# Altium footprint library 0805 Package.PcbLib: 22 footprints (part 1 of 2)
Each footprint in its own frame and in the unit in brackets; x right, y up, seen from the top. Pads: shape width x height; smd on the part's side, far side on the other; paste and mask are expansions set on the pad; w line width, h text height; cw(c..) or ccw(c..) is an arc to the next point about the centre after c.
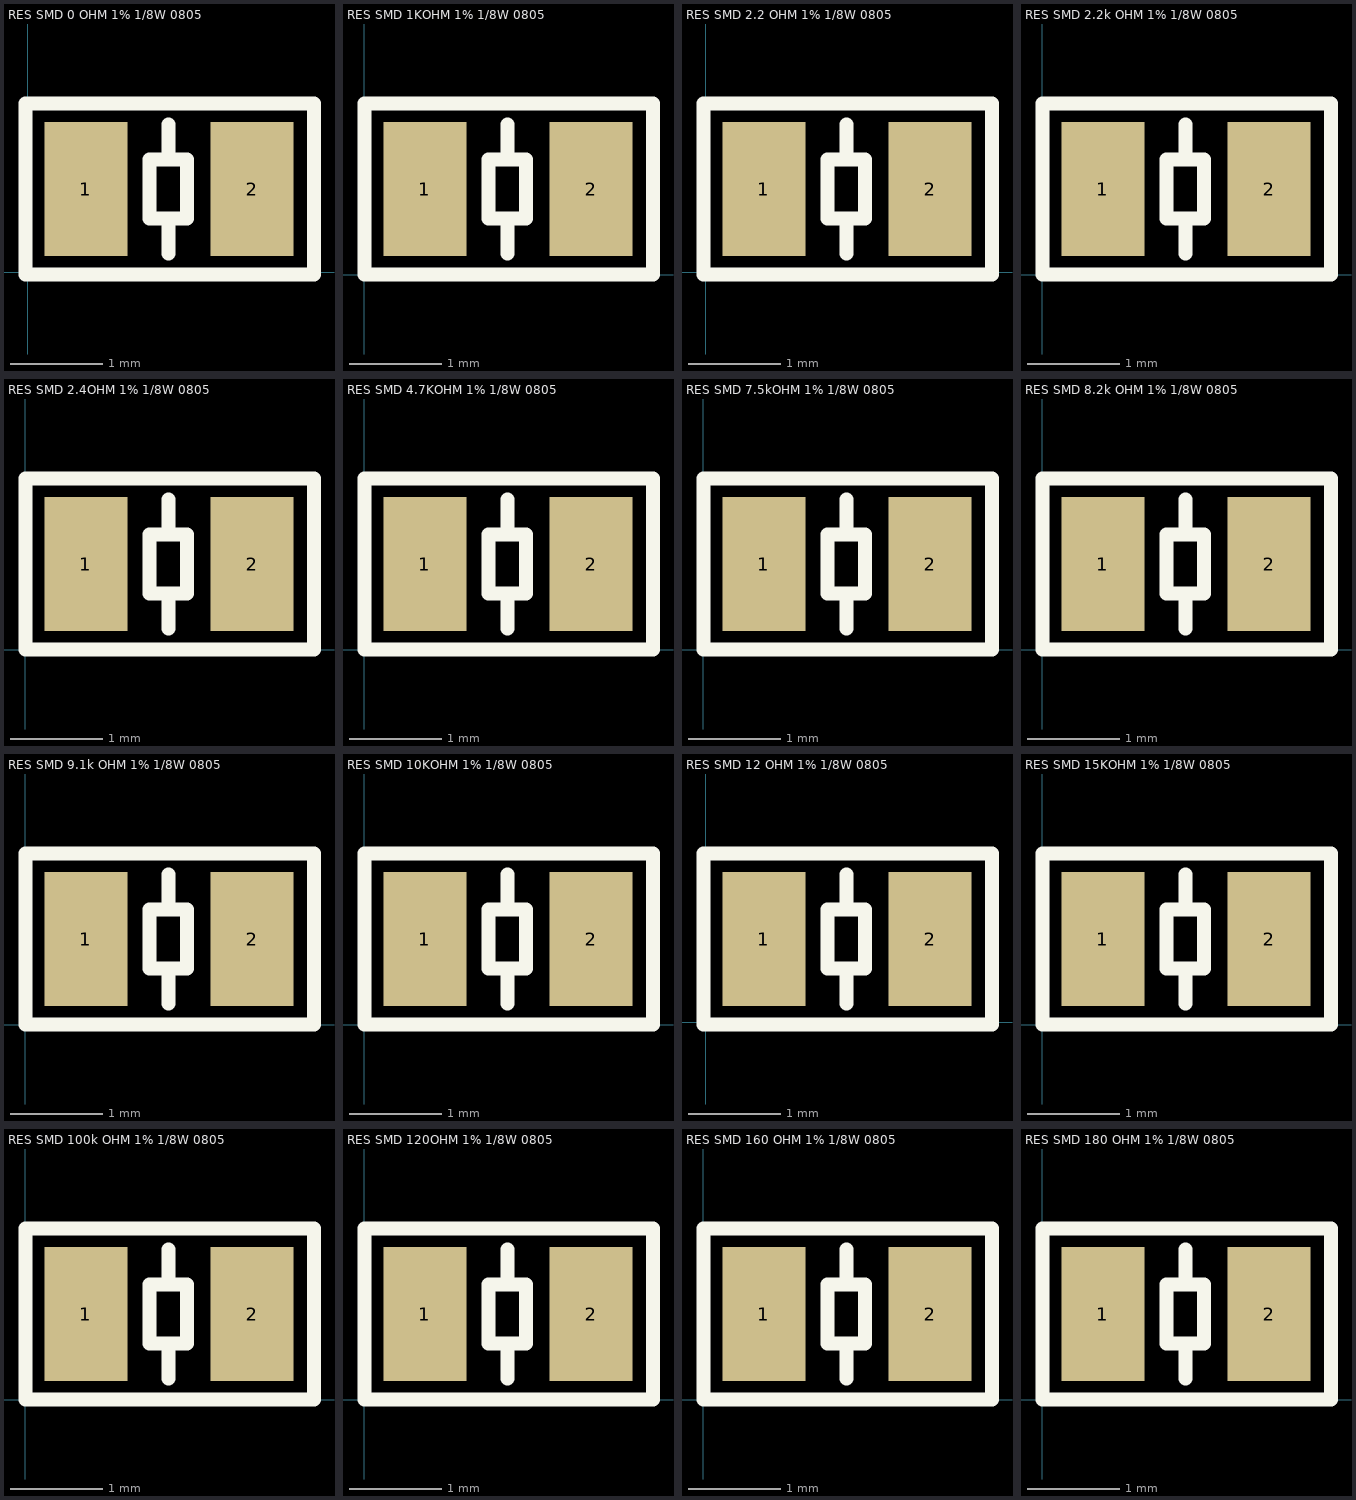
[diagram p0: the footprints below, top view; thin cyan lines are the x and y axes]

## RES SMD 0 OHM 1% 1/8W 0805 [mm] "0 Ohms ±1% 0.125W, 1/8W Chip Resistor 0805 (2012 Metric) Moisture Resistant Thick Film"
pads (2):
  rect 0.9x1.45 smd: 1(0.63,0.9) 2(2.43,0.9)
Top Overlay:
  lines w0.152: 1.524,0.203 1.524,0.584 ; 1.524,1.6 1.524,1.219 ; 1.524,0.584 1.727,0.584 1.727,1.219 1.524,1.219 ; 1.524,0.584 1.321,0.584 1.321,1.219 1.524,1.219 ; -0.025,-0.025 -0.025,1.829 3.099,1.829 3.099,-0.025 -0.025,-0.025
3D body "R0805.STEP": height 0.46, standoff -0.01, extent 0.55,0.264 2.55,1.514

## RES SMD 1KOHM 1% 1/8W 0805 [mm] "1kOhms ±1% 0.125W, 1/8W Chip Resistor 0805 (2012 Metric) Moisture Resistant Thick Film"
pads (2):
  rect 0.9x1.45 smd: 1(0.655,0.925) 2(2.455,0.925)
Top Overlay:
  lines w0.152: 1.549,0.229 1.549,0.61 ; 1.549,1.626 1.549,1.245 ; 1.549,0.61 1.753,0.61 1.753,1.245 1.549,1.245 ; 1.549,0.61 1.346,0.61 1.346,1.245 1.549,1.245 ; 0,0 0,1.854 3.124,1.854 3.124,0 0,0
3D body "R0805.STEP": height 0.46, standoff -0.01, extent 0.575,0.29 2.575,1.539

## RES SMD 2.2 OHM 1% 1/8W 0805 [mm] "2.2 Ohms ±1% 0.125W, 1/8W Chip Resistor 0805 (2012 Metric) Automotive AEC-Q200 Thick Film"
pads (2):
  rect 0.9x1.45 smd: 1(0.63,0.9) 2(2.43,0.9)
Top Overlay:
  lines w0.152: 1.524,0.203 1.524,0.584 ; 1.524,1.6 1.524,1.219 ; 1.524,0.584 1.321,0.584 1.321,1.219 1.524,1.219 ; 1.524,0.584 1.727,0.584 1.727,1.219 1.524,1.219 ; -0.025,-0.025 3.099,-0.025 3.099,1.829 -0.025,1.829 -0.025,-0.025
3D body "R0805.STEP": height 0.46, standoff -0.01, extent 0.55,0.264 2.55,1.514

## RES SMD 2.2k OHM 1% 1/8W 0805 [mm] "2.2k Ohms ±1% 0.125W, 1/8W Chip Resistor 0805 (2012 Metric) Moisture Resistant Thick Film"
pads (2):
  rect 0.9x1.45 smd: 1(0.655,0.925) 2(2.455,0.925)
Top Overlay:
  lines w0.152: 1.549,0.229 1.549,0.61 ; 1.549,1.626 1.549,1.245 ; 1.549,0.61 1.753,0.61 1.753,1.245 1.549,1.245 ; 1.549,0.61 1.346,0.61 1.346,1.245 1.549,1.245 ; 0,0 0,1.854 3.124,1.854 3.124,0 0,0
3D body "R0805.STEP": height 0.46, standoff -0.01, extent 0.575,0.29 2.575,1.539

## RES SMD 2.4OHM 1% 1/8W 0805 [mm] "2.4Ohms ±1% 0.125W, 1/8W Chip Resistor 0805 (2012 Metric) Moisture Resistant Thick Film"
pads (2):
  rect 0.9x1.45 smd: 1(0.655,0.925) 2(2.455,0.925)
Top Overlay:
  lines w0.152: 1.549,0.229 1.549,0.61 ; 1.549,1.626 1.549,1.245 ; 1.549,0.61 1.753,0.61 1.753,1.245 1.549,1.245 ; 1.549,0.61 1.346,0.61 1.346,1.245 1.549,1.245 ; 0,0 0,1.854 3.124,1.854 3.124,0 0,0
3D body "R0805.STEP": height 0.46, standoff -0.01, extent 0.575,0.29 2.575,1.539

## RES SMD 4.7KOHM 1% 1/8W 0805 [mm] "4.7kOhms ±1% 0.125W, 1/8W Chip Resistor 0805 (2012 Metric) Moisture Resistant Thick Film"
pads (2):
  rect 0.9x1.45 smd: 1(0.655,0.925) 2(2.455,0.925)
Top Overlay:
  lines w0.152: 1.549,0.229 1.549,0.61 ; 1.549,1.626 1.549,1.245 ; 1.549,0.61 1.753,0.61 1.753,1.245 1.549,1.245 ; 1.549,0.61 1.346,0.61 1.346,1.245 1.549,1.245 ; 0,0 0,1.854 3.124,1.854 3.124,0 0,0
3D body "R0805.STEP": height 0.46, standoff -0.01, extent 0.575,0.29 2.575,1.539

## RES SMD 7.5kOHM 1% 1/8W 0805 [mm] "7.5kOhms ±1% 0.125W, 1/8W Chip Resistor 0805 (2012 Metric) Moisture Resistant Thick Film"
pads (2):
  rect 0.9x1.45 smd: 1(0.655,0.925) 2(2.455,0.925)
Top Overlay:
  lines w0.152: 1.549,0.229 1.549,0.61 ; 1.549,1.626 1.549,1.245 ; 1.549,0.61 1.753,0.61 1.753,1.245 1.549,1.245 ; 1.549,0.61 1.346,0.61 1.346,1.245 1.549,1.245 ; 0,0 0,1.854 3.124,1.854 3.124,0 0,0
3D body "R0805.STEP": height 0.46, standoff -0.01, extent 0.575,0.29 2.575,1.539

## RES SMD 8.2k OHM 1% 1/8W 0805 [mm] "8.2k Ohms ±1% 0.125W, 1/8W Chip Resistor 0805 (2012 Metric) Moisture Resistant Thick Film"
pads (2):
  rect 0.9x1.45 smd: 1(0.655,0.925) 2(2.455,0.925)
Top Overlay:
  lines w0.152: 1.549,0.229 1.549,0.61 ; 1.549,1.626 1.549,1.245 ; 1.549,0.61 1.753,0.61 1.753,1.245 1.549,1.245 ; 1.549,0.61 1.346,0.61 1.346,1.245 1.549,1.245 ; 0,0 0,1.854 3.124,1.854 3.124,0 0,0
3D body "R0805.STEP": height 0.46, standoff -0.01, extent 0.575,0.29 2.575,1.539

## RES SMD 9.1k OHM 1% 1/8W 0805 [mm] "9.1k Ohms ±1% 0.125W, 1/8W Chip Resistor 0805 (2012 Metric) Moisture Resistant Thick Film"
pads (2):
  rect 0.9x1.45 smd: 1(0.655,0.925) 2(2.455,0.925)
Top Overlay:
  lines w0.152: 1.549,0.229 1.549,0.61 ; 1.549,1.626 1.549,1.245 ; 1.549,0.61 1.346,0.61 1.346,1.245 1.549,1.245 ; 1.549,0.61 1.753,0.61 1.753,1.245 1.549,1.245 ; 0,0 3.124,0 3.124,1.854 0,1.854 0,0
3D body "R0805.STEP": height 0.46, standoff -0.01, extent 0.575,0.29 2.575,1.539

## RES SMD 10KOHM 1% 1/8W 0805 [mm] "10 kOhms ±1% 0.125W, 1/8W Chip Resistor 0805 (2012 Metric) Moisture Resistant Thick Film"
pads (2):
  rect 0.9x1.45 smd: 1(0.655,0.925) 2(2.455,0.925)
Top Overlay:
  lines w0.152: 1.549,0.229 1.549,0.61 ; 1.549,1.626 1.549,1.245 ; 1.549,0.61 1.753,0.61 1.753,1.245 1.549,1.245 ; 1.549,0.61 1.346,0.61 1.346,1.245 1.549,1.245 ; 0,0 0,1.854 3.124,1.854 3.124,0 0,0
3D body "R0805.STEP": height 0.46, standoff -0.01, extent 0.575,0.29 2.575,1.539

## RES SMD 12 OHM 1% 1/8W 0805 [mm] "12 Ohms ±1% 0.125W, 1/8W Chip Resistor 0805 (2012 Metric) Moisture Resistant Thick Film"
pads (2):
  rect 0.9x1.45 smd: 1(0.63,0.9) 2(2.43,0.9)
Top Overlay:
  lines w0.152: 1.524,0.203 1.524,0.584 ; 1.524,1.6 1.524,1.219 ; 1.524,0.584 1.321,0.584 1.321,1.219 1.524,1.219 ; 1.524,0.584 1.727,0.584 1.727,1.219 1.524,1.219 ; -0.025,-0.025 3.099,-0.025 3.099,1.829 -0.025,1.829 -0.025,-0.025
3D body "R0805.STEP": height 0.46, standoff -0.01, extent 0.55,0.264 2.55,1.514

## RES SMD 15KOHM 1% 1/8W 0805 [mm] "15kOhms ±1% 0.125W, 1/8W Chip Resistor 0805 (2012 Metric) Moisture Resistant Thick Film"
pads (2):
  rect 0.9x1.45 smd: 1(0.655,0.925) 2(2.455,0.925)
Top Overlay:
  lines w0.152: 1.549,0.229 1.549,0.61 ; 1.549,1.626 1.549,1.245 ; 1.549,0.61 1.753,0.61 1.753,1.245 1.549,1.245 ; 1.549,0.61 1.346,0.61 1.346,1.245 1.549,1.245 ; 0,0 0,1.854 3.124,1.854 3.124,0 0,0
3D body "R0805.STEP": height 0.46, standoff -0.01, extent 0.575,0.29 2.575,1.539

## RES SMD 100k OHM 1% 1/8W 0805 [mm] "100k Ohms ±1% 0.125W, 1/8W Chip Resistor 0805 (2012 Metric) Moisture Resistant Thick Film"
pads (2):
  rect 0.9x1.45 smd: 1(0.655,0.925) 2(2.455,0.925)
Top Overlay:
  lines w0.152: 1.549,0.229 1.549,0.61 ; 1.549,1.626 1.549,1.245 ; 1.549,0.61 1.753,0.61 1.753,1.245 1.549,1.245 ; 1.549,0.61 1.346,0.61 1.346,1.245 1.549,1.245 ; 0,0 0,1.854 3.124,1.854 3.124,0 0,0
3D body "R0805.STEP": height 0.46, standoff -0.01, extent 0.575,0.29 2.575,1.539

## RES SMD 120OHM 1% 1/8W 0805 [mm] "120 Ohms ±1% 0.125W, 1/8W Chip Resistor 0805 (2012 Metric)  Thick Film"
pads (2):
  rect 0.9x1.45 smd: 1(0.655,0.925) 2(2.455,0.925)
Top Overlay:
  lines w0.152: 1.549,0.229 1.549,0.61 ; 1.549,1.626 1.549,1.245 ; 1.549,0.61 1.753,0.61 1.753,1.245 1.549,1.245 ; 1.549,0.61 1.346,0.61 1.346,1.245 1.549,1.245 ; 0,0 0,1.854 3.124,1.854 3.124,0 0,0
3D body "R0805.STEP": height 0.46, standoff -0.01, extent 0.575,0.29 2.575,1.539

## RES SMD 160 OHM 1% 1/8W 0805 [mm] "160 Ohms ±1% 0.125W, 1/8W Chip Resistor 0805 (2012 Metric) Moisture Resistant Thick Film"
pads (2):
  rect 0.9x1.45 smd: 1(0.655,0.925) 2(2.455,0.925)
Top Overlay:
  lines w0.152: 1.549,0.229 1.549,0.61 ; 1.549,1.626 1.549,1.245 ; 1.549,0.61 1.753,0.61 1.753,1.245 1.549,1.245 ; 1.549,0.61 1.346,0.61 1.346,1.245 1.549,1.245 ; 0,0 0,1.854 3.124,1.854 3.124,0 0,0
3D body "R0805.STEP": height 0.46, standoff -0.01, extent 0.575,0.29 2.575,1.539

## RES SMD 180 OHM 1% 1/8W 0805 [mm] "180 Ohms ±1% 0.125W, 1/8W Chip Resistor 0805 (2012 Metric) Moisture Resistant Thick Film"
pads (2):
  rect 0.9x1.45 smd: 1(0.655,0.925) 2(2.455,0.925)
Top Overlay:
  lines w0.152: 1.549,0.229 1.549,0.61 ; 1.549,1.626 1.549,1.245 ; 1.549,0.61 1.753,0.61 1.753,1.245 1.549,1.245 ; 1.549,0.61 1.346,0.61 1.346,1.245 1.549,1.245 ; 0,0 0,1.854 3.124,1.854 3.124,0 0,0
3D body "R0805.STEP": height 0.46, standoff -0.01, extent 0.575,0.29 2.575,1.539